# Altium schematic symbol library 22057045.Schlib: 1 symbol
Pins are listed as number, name and electrical type; pins without a type are passive.

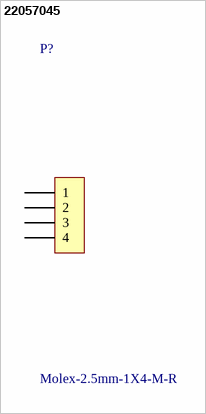
[diagram p0: symbol 22057045]

## 22057045
designator P?, comment Molex-2.5mm-1X4-M-R
2.5mm Pitch, 1X4  Male Right
pins: 1, 2, 3, 4